# EAGLE library part SIDE_CONNECTOR (library DEEP_MainBoard)
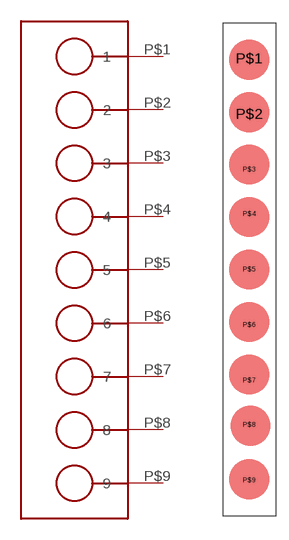
[diagram p0: symbol with the pads of MAINBOARD_SIDE_CON; footprint MAINBOARD_SIDE_CON]

Designator prefix -

## SIDE_CONNECTOR  [MAINBOARD_SIDE_CON]
P$1  1
P$2  2
P$3  3
P$4  4
P$5  5
P$6  6
P$7  7
P$8  8
P$9  9

## Footprint MAINBOARD_SIDE_CON (pad centres in mm)
smd 3.81 x 1.93: P$1 0,24.13; P$2 0,17.78
smd 1.676 x 0.813: P$3 0,11.43; P$4 0,6.35; P$5 0,0; P$6 0,-6.35; P$7 0,-12.7; P$8 0,-17.78; P$9 0,-24.13